# EAGLE library part ORANGEPIZERO (library Embedded > SBC)
It’s an open-source single-board computer. It can run Android 4.4, Ubuntu, Debian. It uses the AllWinner H2 SoC, and has 256MB/512MB DDR3 SDRAM(256MB version is Standard version
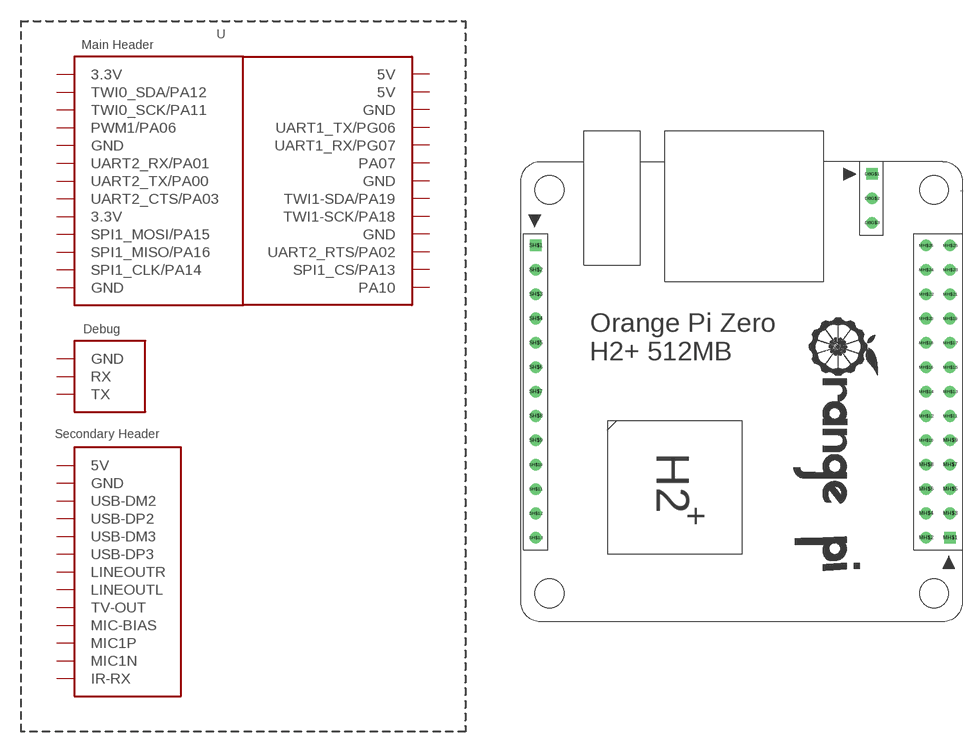
[diagram p2: symbol with the pads of ORANGEPIZERO; footprint ORANGEPIZERO]

Designator prefix U

## ORANGEPIZEROA  [ORANGEPIZERO]
DBG$1  GND
DBG$2  RX
DBG$3  TX
MH$1  3.3V
MH$2  5V
MH$3  TWI0_SDA/PA12
MH$4  5V
MH$5  TWI0_SCK/PA11
MH$6  GND
MH$7  PWM1/PA06
MH$8  UART1_TX/PG06
MH$9  GND
MH$10  UART1_RX/PG07
MH$11  UART2_RX/PA01
MH$12  PA07
MH$13  UART2_TX/PA00
MH$14  GND
MH$15  UART2_CTS/PA03
MH$16  TWI1-SDA/PA19
MH$17  3.3V
MH$18  TWI1-SCK/PA18
MH$19  SPI1_MOSI/PA15
MH$20  GND
MH$21  SPI1_MISO/PA16
MH$22  UART2_RTS/PA02
MH$23  SPI1_CLK/PA14
MH$24  SPI1_CS/PA13
MH$25  GND
MH$26  PA10
SH$1  5V
SH$2  GND
SH$3  USB-DM2
SH$4  USB-DP2
SH$5  USB-DM3
SH$6  USB-DP3
SH$7  LINEOUTR
SH$8  LINEOUTL
SH$9  TV-OUT
SH$10  MIC-BIAS
SH$11  MIC1P
SH$12  MIC1N
SH$13  IR-RX

## Footprint ORANGEPIZERO (pad centres in mm)
It’s an open-source single-board computer. It can run Android 4.4, Ubuntu, Debian. It uses the AllWinner H2 SoC, and has 256MB/512MB DDR3 SDRAM(256MB version is Standard version
drill 0.7 square: DBG$1 13.601,22.704; MH$1 21.75,-15.24; SH$1 -21.469,15.24
drill 0.7: DBG$2 13.601,20.162; DBG$3 13.601,17.624; MH$2 19.24,-15.24; MH$3 21.75,-12.7; MH$4 19.24,-12.7; MH$5 21.75,-10.16; MH$6 19.24,-10.16; MH$7 21.75,-7.62; MH$8 19.24,-7.62; MH$9 21.75,-5.08; MH$10 19.24,-5.08; MH$11 21.75,-2.54; MH$12 19.24,-2.54; MH$13 21.75,0; MH$14 19.24,0; MH$15 21.75,2.54; MH$16 19.24,2.54; MH$17 21.75,5.08; MH$18 19.24,5.08; MH$19 21.75,7.62; MH$20 19.24,7.62; MH$21 21.75,10.16; MH$22 19.24,10.16; MH$23 21.75,12.7; MH$24 19.24,12.7; MH$25 21.75,15.24; MH$26 19.24,15.24; SH$2 -21.469,12.7; SH$3 -21.469,10.16; SH$4 -21.469,7.62; SH$5 -21.469,5.08; SH$6 -21.469,2.54; SH$7 -21.469,0; SH$8 -21.469,-2.54; SH$9 -21.469,-5.08; SH$10 -21.469,-7.62; SH$11 -21.469,-10.16; SH$12 -21.469,-12.7; SH$13 -21.469,-15.24
hole 3 at -20.055,-21.055
hole 3 at 20.055,-21.055
hole 3 at -20.055,21.055
hole 3 at 20.055,21.055